# EAGLE library part J1006F01P (library pulsejack)
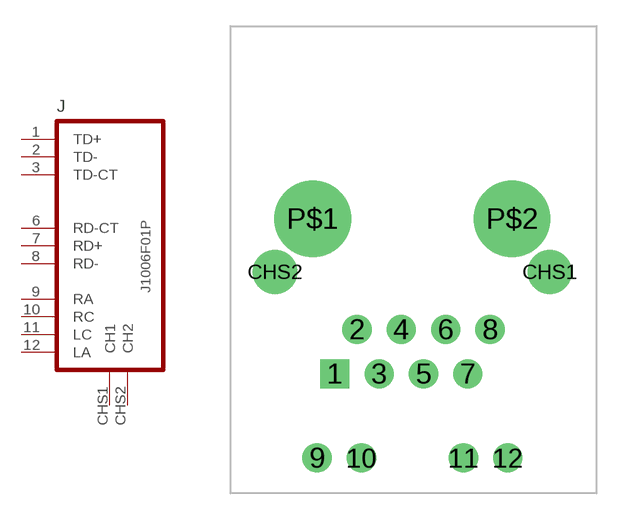
[diagram p0: symbol with the pads of PULSEJACK-J1A; footprint PULSEJACK-J1A]

Designator prefix J

## J1006F01P  [PULSEJACK-J1A]
1  TD+  pas
2  TD-  pas
3  TD-CT  pas
6  RD-CT  pas
7  RD+  pas
8  RD-  pas
9  RA  pas
10  RC  pas
11  LC  pas
12  LA  pas
CHS1  CH1  pas
CHS2  CH2  pas

## Footprint PULSEJACK-J1A (pad centres in mm)
drill 1.016 pad 1.676 square: 1 -4.445,-4.572
drill 1.016 pad 1.676 round: 2 -3.175,-2.032; 3 -1.905,-4.572; 4 -0.635,-2.032; 5 0.635,-4.572; 6 1.905,-2.032; 7 3.175,-4.572; 8 4.445,-2.032; 9 -5.461,-9.398; 10 -2.921,-9.398; 11 2.921,-9.398; 12 5.461,-9.398
drill 1.676 pad 2.54 round: CHS1 7.874,1.27; CHS2 -7.874,1.27
drill 3.378 round: P$1 -5.715,4.318; P$2 5.715,4.318